# EAGLE library part 690367180872 (library Board-to-Board (rev18a))
WR-MM Female Connector without Latch and without Polarization, 8 Pins=>Code : Con_BTB_MM_Female_THT_St_690367180872 <http://katalog.we-online.de/media/thumbs2/eican/thb_Con_BTB_MM_Female_THT_St_69036718xx72_pf2.jpg> Details see: http://katalog.we-online.de/en/em/6903_6718_xx_72 Created 2014-06-04, Karrer Zheng 2014 (C) Würth Elektronik
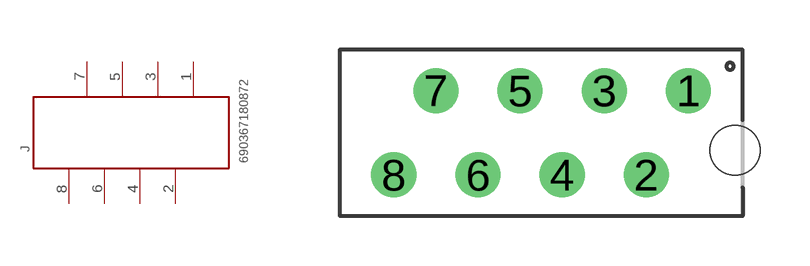
[diagram p328: symbol with the pads of 690367180872; footprint 690367180872]

Designator prefix J

## 690367180872  [690367180872]
1  8  pas
2  7  pas
3  6  pas
4  5  pas
5  4  pas
6  3  pas
7  2  pas
8  1  pas

## Footprint 690367180872 (pad centres in mm)
WR-MM Female Connector without Latch and without Polarization, 8 Pins
drill 0.85: 1 4.445,1.27; 2 3.175,-1.27; 3 1.905,1.27; 4 0.635,-1.27; 5 -0.635,1.27; 6 -1.905,-1.27; 7 -3.175,1.27; 8 -4.445,-1.27
hole 1.5 at 5.845,-0.53